# EAGLE library part TA7291S (library MOTORDRV)
Bridge Motor Driver TOSHIBA
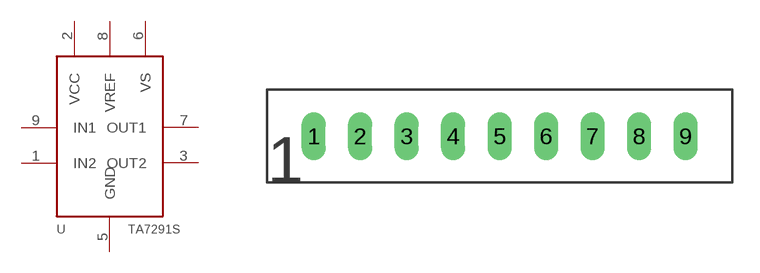
[diagram p1: symbol with the pads of SIP9; footprint SIP9]

Designator prefix U

## TA7291S  [SIP9]
1  IN2  in
2  VCC  pwr
3  OUT2  out
5  GND  pwr
6  VS  pwr
7  OUT1  out
8  VREF  pwr
9  IN1  in

## Footprint SIP9 (pad centres in mm)
SIP9-P-2.45-PACKAGE
drill 0.8 long: 1 -10.16,0; 2 -7.62,0; 3 -5.08,0; 4 -2.54,0; 5 0,0; 6 2.54,0; 7 5.08,0; 8 7.62,0; 9 10.16,0